# Altium footprint library PcbLib1.PcbLib: 27 footprints (part 1 of 2)
Each footprint in its own frame and in the unit in brackets; x right, y up, seen from the top. Pads: shape width x height; smd on the part's side, far side on the other; paste and mask are expansions set on the pad; w line width, h text height; cw(c..) or ccw(c..) is an arc to the next point about the centre after c.
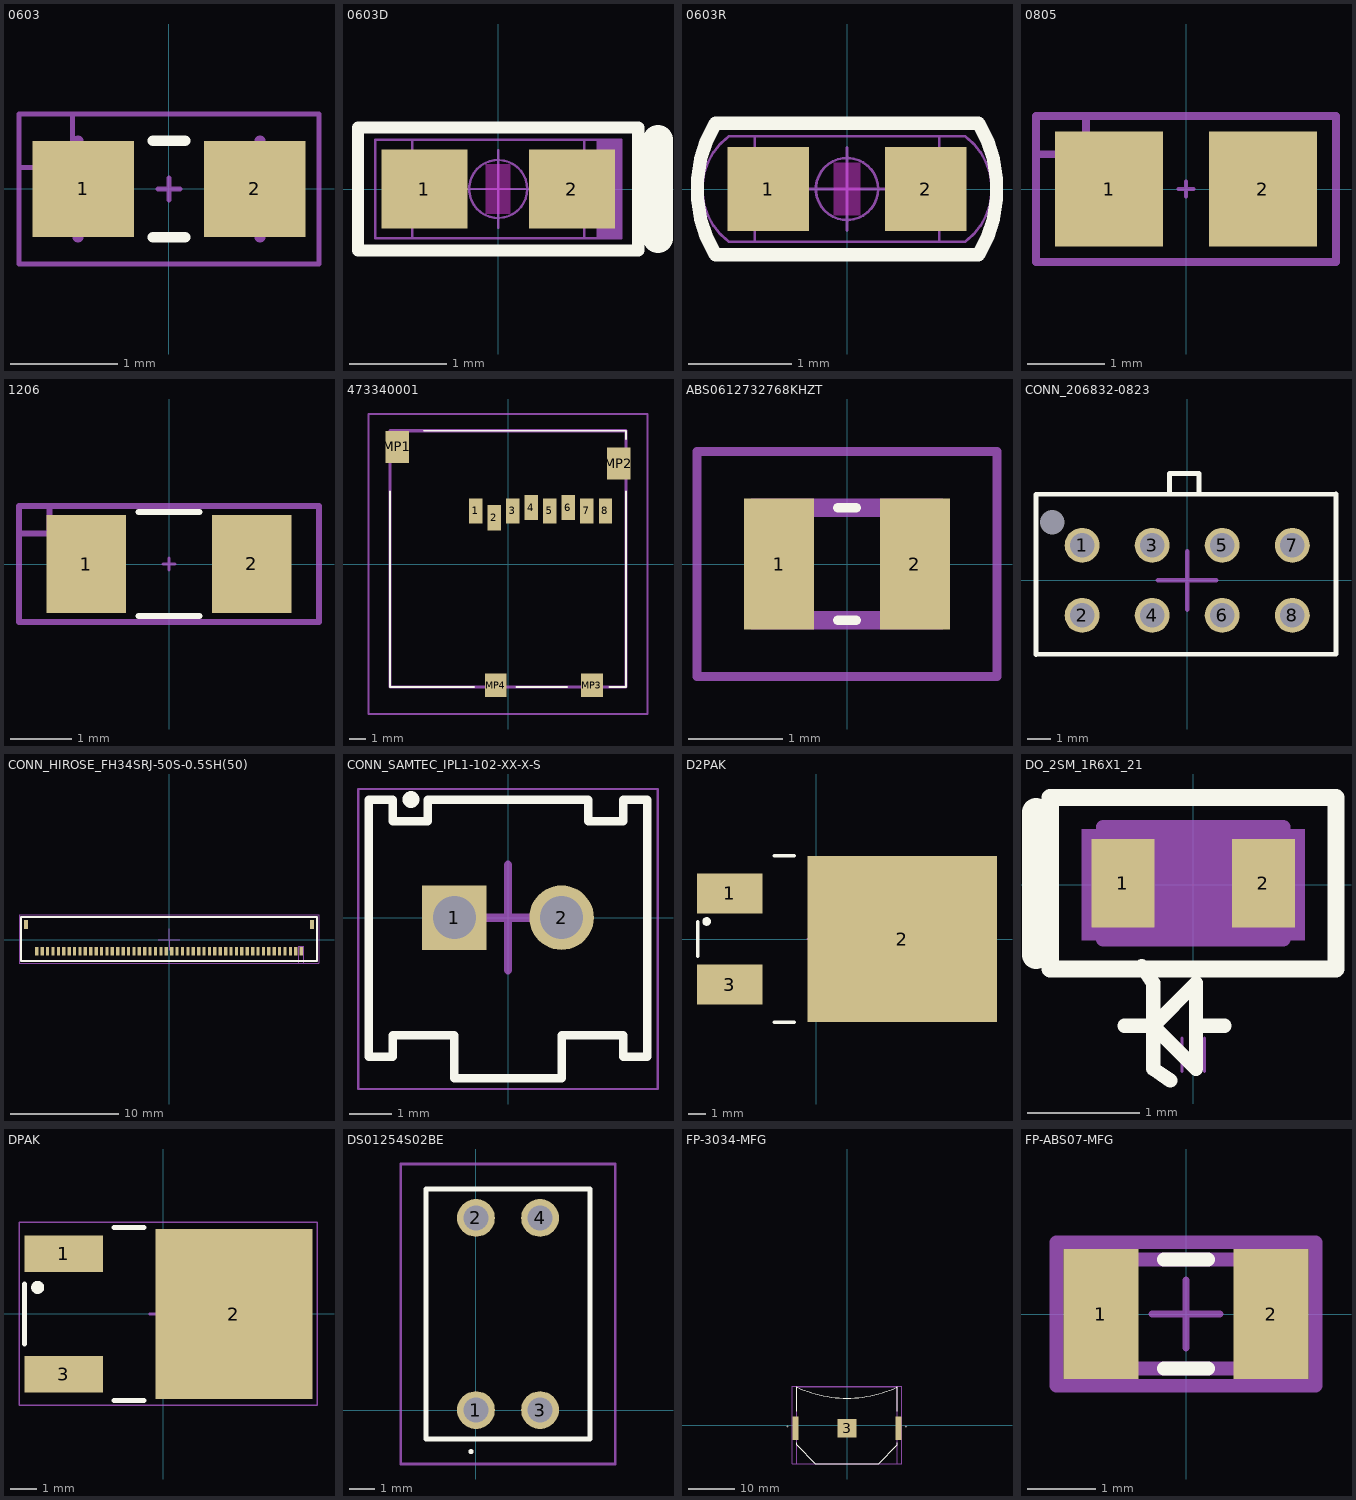
[diagram p0: the footprints below, top view; thin cyan lines are the x and y axes]

## 0603 [mm] "Chip Capacitor, 2-Leads, Body 1.60x0.80mm, IPC Medium Density"
height 0.6
pads (2):
  rect 0.95x0.9 smd: 1(-0.8,0) 2(0.8,0)
Top Overlay:
  lines w0.1: -0.15,-0.45 0.15,-0.45 ; -0.15,0.45 0.15,0.45
Top Courtyard:
  lines w0.05: -1.4,0.2 -0.9,0.2 -0.9,0.675 ; -0.1,0 0.1,0 ; 0,-0.1 0,0.1 ; -1.4,-0.7 1.4,-0.7 1.4,0.7 -1.4,0.7 -1.4,-0.7
Top Designator:
  text ".Designator" at -1.3,-0.3 h0.7
Top 3D Body:
  lines w0.1: -0.85,-0.45 -0.85,0.45 ; 0.85,-0.45 0.85,0.45
3D body: height 0.6, standoff 0, extent -0.45,-0.45 0.45,0.45
3D body: height 0.6, standoff 0, extent 0.45,-0.45 0.85,0.45
3D body: height 0.6, standoff 0, extent -0.85,-0.45 -0.45,0.45

## 0603D [mil] "0603D"
pads (2):
  rect 35x32 smd: 1(-30,0) 2(30,0)
Top Layer keep-out:
  region: -5,-10 5,-10 5,10 -5,10
Top Overlay:
  lines w5: -57,-25 -57,25 57,25 57,-25 -57,-25
  lines w12: 65,-20 65,20
Top Assembly:
  dashed: 40,20 40,-20 50,-20 50,20
  lines w1: -15,-20 -50,-20 -50,20 -30,20 -15,20 ; 15,-20 50,-20 50,20 15,20
Top Component Center:
  circle w1: c0,0 r11.81
  lines w1: -15.75,0 15.75,0 ; 0,-15.75 0,15.75
Mechanical 49:
  text "1" at -30,-6.4 h16
  text "2" at 30,-6.4 h16
Mechanical 56:
  lines w1: -35,-20 -35,20 35,20 35,-20 -35,-20
3D body: height 20, standoff 0, extent -50,-20 50,20

## 0603R [mil] "0603R"
pads (2):
  rect 31x32 smd: 1(-30,0) 2(30,0)
Top Layer keep-out:
  region: -5,10 -5,-10 5,-10 5,10
Top Overlay:
  lines w5: -50,-25 cw(c-8.86,0) -50,25 50,25 cw(c8.86,0) 50,-25 -50,-25
Top Assembly:
  lines w1: -45,-20 cw(c-30,0) -45,20 45,20 cw(c30,0) 45,-20 -45,-20
Top Component Center:
  circle w1: c0,0 r11.81
  lines w1: -15.75,0 15.75,0 ; 0,-15.75 0,15.75
Mechanical 49:
  text "2" at 30,6.4 h16
  text "1" at -30,6.4 h16
Mechanical 56:
  lines w1: -35,-20 35,-20 35,20 -35,20 -35,-20
3D body: height 25, standoff 0, extent -50,-20 50,20

## 0805 [mm] "Generic 0805 Footprint"
height 2
pads (2):
  rect 1.4x1.5 smd: 1(-1,0) 2(1,0)
Top Courtyard:
  lines w0.05: -0.1,0 0.1,0 ; 0,-0.1 0,0.1
  lines w0.1: -1.95,0.45 -1.3,0.45 -1.3,0.95 ; -1.95,-0.95 -1.95,0.95 1.95,0.95 1.95,-0.95 -1.95,-0.95
Top Designator:
  text ".Designator" at -1.8,-0.37 h0.9
3D body "User Library-RESC2012X05N.STEP": height 0.45, standoff 0, extent -1.009,-0.625 0.991,0.625

## 1206 [mm] "Generic 1206"
height 3
pads (2):
  rect 1.3x1.6 smd: 1(-1.35,0) 2(1.35,0)
Top Overlay:
  lines w0.1: -0.5,-0.85 0.5,-0.85 ; -0.5,0.85 0.5,0.85
Top Courtyard:
  lines w0.05: -0.1,0 0.1,0 ; 0,-0.1 0,0.1
  lines w0.1: -2.45,0.5 -1.95,0.5 -1.95,0.95 ; -2.45,-0.95 -2.45,0.95 2.45,0.95 2.45,-0.95 -2.45,-0.95
Top Designator:
  text ".Designator" at -2.3,-0.5 h1
3D body "User Library-CAPC3216X___.STEP": height 0.57, standoff 0, extent -1.6,-0.81 1.6,0.81

## 473340001 [mm]
pads (12):
  rect 0.8x1.5 smd: 1(-1.915,3.15) 2(-0.815,2.75) 3(0.285,3.15) 4(1.385,3.35) 5(2.485,3.15) 6(3.585,3.35) 7(4.685,3.15) 8(5.785,3.15)
  rect 1.4x1.9 smd: MP1(-6.575,6.95) MP2(6.575,5.95)
  rect 1.3x1.4 smd: MP3(4.975,-7.2) MP4(-0.725,-7.2)
Top Overlay:
  lines w0.1: -7,4.3 -7,-7.3 -2,-7.3 ; -5,7.9 7,7.9 7,7.4 ; 0.5,-7.3 3.5,-7.3 ; 6,-7.3 7,-7.3 7,4.3
Top 3D Body:
  lines w0.2: -7,-7.3 -7,7.9 7,7.9 7,-7.3 -7,-7.3
Mechanical 15:
  lines w0.1: -8.275,-8.9 -8.275,8.9 8.275,8.9 8.275,-8.9 -8.275,-8.9
3D body "47334-0001.stp": height 1.88, standoff 0, extent -7.05,-7.52 7.05,7.68

## ABS0612732768KHZT [mm]
pads (2):
  rect 0.75x1.4 smd: 1(-0.725,0) 2(0.725,0)
Top Overlay:
  lines w0.1: -0.1,-0.6 0.1,-0.6 ; -0.1,0.6 0.1,0.6
Top 3D Body:
  lines w0.2: -1,-0.6 -1,0.6 1,0.6 1,-0.6 -1,-0.6
Mechanical 15:
  lines w0.1: -1.6,-1.2 -1.6,1.2 1.6,1.2 1.6,-1.2 -1.6,-1.2
3D body "User Library-TF20D.STEP": height 0.6, standoff 0, extent -1,-0.6 1,0.6

## CONN_206832-0823 [mm]
height 9.4
pads (9):
  round 0 hole 1.05 unplated: 0(-5.78,2.48)
  round 1.5 hole 1.05: 1(-4.5,1.5) 2(-4.5,-1.5) 3(-1.5,1.5) 4(-1.5,-1.5) 5(1.5,1.5) 6(1.5,-1.5) 7(4.5,1.5) 8(4.5,-1.5)
Top Overlay:
  lines w0.2: -0.762,3.683 -0.762,4.572 0.465,4.572 ; 0.508,3.683 0.508,4.572 ; -6.477,-3.176 -6.477,3.684 6.373,3.695 6.373,-3.164 -6.477,-3.176
Top Component Center:
  lines w0.2: -1.25,0 1.25,0 ; 0,-1.25 0,1.25
Top Courtyard:
  lines w0.2: -1.25,0 1.25,0 ; 0,-1.25 0,1.25
3D body "2068320823.stp": height 9.95, standoff -3.14, extent -6.425,-3.43 6.425,4.83

## CONN_HIROSE_FH34SRJ-50S-0.5SH(50) [mm]
height 27.5
pads (52):
  rect 0.4x0.8 smd: 0(-13.25,1.4) 0(13.25,1.4)
  rect 0.3x0.8 smd mask+0: 1(12.25,-1.1) 2(11.75,-1.1) 3(11.25,-1.1) 4(10.75,-1.1) 5(10.25,-1.1) 6(9.75,-1.1) 7(9.25,-1.1) 8(8.75,-1.1) 9(8.25,-1.1) 10(7.75,-1.1) 11(7.25,-1.1) 12(6.75,-1.1) 13(6.25,-1.1) 14(5.75,-1.1) 15(5.25,-1.1) 16(4.75,-1.1) 17(4.25,-1.1) 18(3.75,-1.1) 19(3.25,-1.1) 20(2.75,-1.1) 21(2.25,-1.1) 22(1.75,-1.1) 23(1.25,-1.1) 24(0.75,-1.1) 25(0.25,-1.1) 26(-0.25,-1.1) 27(-0.75,-1.1) 28(-1.25,-1.1) 29(-1.75,-1.1) 30(-2.25,-1.1) 31(-2.75,-1.1) 32(-3.25,-1.1) 33(-3.75,-1.1) 34(-4.25,-1.1) 35(-4.75,-1.1) 36(-5.25,-1.1) 37(-5.75,-1.1) 38(-6.25,-1.1) 39(-6.75,-1.1) 40(-7.25,-1.1) 41(-7.75,-1.1) 42(-8.25,-1.1) 43(-8.75,-1.1) 44(-9.25,-1.1) 45(-9.75,-1.1) 46(-10.25,-1.1) 47(-10.75,-1.1) 48(-11.25,-1.1) 49(-11.75,-1.1) 50(-12.25,-1.1)
Top Overlay:
  lines w0.2: -13.7,-2 13.7,-2 13.7,2.1 -13.7,2.1 -13.7,-2
Top Component Center:
  lines w0.1: -1,0 1,0 ; 0,-1 0,1
Top Courtyard:
  lines w0.05: 12,-2.2 12,-0.6 12.5,-0.6 12.5,-2.2 ; -13.9,-2.2 -13.9,2.3 13.9,2.3 13.9,-2.2 -13.9,-2.2
  lines w0.1: -1,0 1,0 ; 0,-1 0,1
Top Designator:
  text ".Designator" at -2.252,-0.226 h1
3D body "FH34SRJ-50S-0.5SH.stp": height 1.01, standoff 0.01, extent -13.5,-1.9 13.5,1.9

## CONN_SAMTEC_IPL1-102-XX-X-S [mm]
height 8.13
pads (2):
  rect 1.53x1.53 hole 1.02: 1(-1.27,0)
  round 1.53 hole 1.02: 2(1.27,0)
Top Overlay:
  circle w0.2: c-2.3,2.8 r0.1
  lines w0.2: -3.3,-3.3 -2.729,-3.3 -2.729,-2.79 -1.27,-2.79 -1.27,-3.81 1.27,-3.81 1.27,-2.79 2.729,-2.79 2.729,-3.3 3.3,-3.3 3.3,2.8 2.729,2.8 2.729,2.29 1.905,2.29 1.905,2.8 -1.905,2.8 -1.905,2.29 -2.729,2.29 -2.729,2.8 -3.3,2.8 -3.3,-3.3
Top Component Center:
  lines w0.2: -1.25,0 1.25,0 ; 0,-1.25 0,1.25
Top Courtyard:
  lines w0.05: -3.55,-4.06 3.55,-4.06 3.55,3.05 -3.55,3.05 -3.55,-4.06
  lines w0.2: -1.25,0 1.25,0 ; 0,-1.25 0,1.25
Top Designator:
  text ".Designator" at -2.265,-0.239 h1
3D body "IPL1-102-01-L-S-K.stp": height 8.14, standoff -3.04, extent -3.282,-3.81 3.322,2.794

## D2PAK [mm] "D2-PAK, 7-Pads, Body 7.93x8.69mm (max), IPC Medium Density"
height 4.83
pads (3):
  rect 3.81x2.32 smd: 1(-5,2.64) 3(-5,-2.64)
  rect 11x9.65 smd: 2(5,0)
Top Overlay:
  circle w0.25: c-6.35,1.016 r0.125
  lines w0.2: -6.858,-1.016 -6.858,1.016 ; -2.413,-4.826 -1.27,-4.826 ; -2.413,4.826 -1.27,4.826
Assembly Notes:
  lines w0.1: -0.5,0 0.5,0 ; 0,-0.5 0,0.5
  text ".Designator" at -4.191,-0.381 h1
3D body "SW3dPS-TO263-3S.STEP": height 4.81, standoff 0.01, extent -6.025,-5 9.645,5

## DO_2SM_1R6X1_21 [mil] "DO_2SM_1R6X1_21"
pads (2):
  rect 22x31 smd: 1(-24.61,0.5) 2(24.61,0.5)
Top Overlay:
  lines w5: -24,-49.41 -14,-49.41 ; -18,-28.5 -14,-34.41 -14,-64.41 -8,-68.5 ; 1,-49.41 11,-49.41 ; -14,-49.41 1,-34.41 1,-39.41 1,-64.41 -14,-49.41
  lines w6: -50,-29.5 -50,30.5 50,30.5 50,-29.5 -50,-29.5
  lines w9.84: -55,-24.5 -55,25.5
Top Assembly:
  lines w5: -31.5,-19.19 31.5,-19.19 31.5,20.19 -31.5,20.19 -31.5,-19.19
  lines w9.84: -25,-14.5 -25,15.5
Top Component Center:
  circle w1: c0,0.5 r11.81
  circle w1: c0,0.5 r11.81
  lines w1: -15.75,0.5 15.75,0.5 -15.75,0.5 ; 0,-15.25 0,16.25 0,-15.25
Top 3D Body:
  region: -39,19.5 -39,-19.5 39,-19.5 39,19.5
Mechanical 49:
  text "2" at 25.08,-10.9 h16
  text "1" at -25.08,-10.9 h16
Mechanical 52:
  lines w1: -3.94,-65.41 -3.94,-53.59 ; 3.94,-65.41 3.94,-53.59
3D body: height 25, standoff 0, extent -39,-19.5 39,19.5

## DPAK [mm]
pads (3):
  rect 3x1.4 smd: 1(-3.793,2.287) 3(-3.793,-2.313)
  rect 6x6.5 smd: 2(2.707,-0.013)
Top Overlay:
  circle w0.25: c-4.786,1.003 r0.125
  lines w0.2: -5.294,-1.156 -5.294,1.13 ; -1.865,-3.315 -0.722,-3.315 ; -1.865,3.289 -0.722,3.289
Assembly Notes:
  lines w0.1: 2.207,-0.013 3.207,-0.013 ; 2.707,-0.513 2.707,0.487
Top Component Center:
  lines w0.1: -0.513,-0.013 0.487,-0.013 ; -0.013,-0.513 -0.013,0.487
Top Courtyard:
  lines w0.05: -5.5,-3.5 -5.5,3.5 5.9,3.5 5.9,-3.5 -5.5,-3.5
  lines w0.1: -0.513,-0.013 0.487,-0.013 ; -0.013,-0.513 -0.013,0.487
Top Designator:
  text ".Designator" at -2.265,-0.239 h1
3D body "TO-252AA.stp": height 2.41, standoff 0.01, extent -5.033,-3.315 5.367,3.362

## DS01254S02BE [mm]
pads (4):
  round 1.5 hole 1: 1(0,0) 2(0,7.62) 3(2.54,0) 4(2.54,7.62)
Top Overlay:
  lines w0.1: -0.2,-1.7 ccw(c-0.2,-1.65) -0.2,-1.6 ccw(c-0.2,-1.65) -0.2,-1.7
  lines w0.2: -1.98,-1.14 -1.98,8.76 4.52,8.76 4.52,-1.14 -1.98,-1.14
Top 3D Body:
  lines w0.1: -1.98,-1.14 -1.98,8.76 4.52,8.76 4.52,-1.14 -1.98,-1.14
Mechanical 15:
  lines w0.1: -2.98,-2.14 -2.98,9.76 5.52,9.76 5.52,-2.14 -2.98,-2.14
3D body "DS01-254-S-02BE.stp": height 7.1, standoff -5, extent -1.98,-1.14 4.52,8.76

## FP-3034-MFG [mm]
height 1.75
pads (3):
  rect 1.27x5.08 smd paste+0 mask+0: 1(-10.985,-0.67) 2(10.985,-0.67)
  rect 3.96x3.96 smd paste-1000 mask+0: 3(0,-0.67)
Top Overlay:
  lines w0.2: -10.73,-3.725 -10.73,-4.225 -6.77,-8.185 ; -10.73,3 -10.73,8.185 ccw(c0,30.765) 10.73,8.185 10.73,3 ; -6.645,-8.185 6.645,-8.185 ; 6.77,-8.185 10.73,-4.225 10.73,-3.725
  text "+" at -12.925,-0.875 h1
  text "+" at 12.35,-0.875 h1
Top Assembly:
  lines w0.2: -11.72,-8.285 -11.72,8.285 11.72,8.285 11.72,-8.285 -11.72,-8.285
  text ".Designator" at 0,0.188 h1
Top Component Center:
  lines w0.1: -0.5,0 0.5,0 ; 0,-0.5 0,0.5
Top Courtyard:
  lines w0.2: -11.72,-8.285 -11.72,8.285 11.72,8.285 11.72,-8.285 -11.72,-8.285
Top 3D Body:
  lines w0.2: -10.73,-8.185 -10.73,8.185 10.73,8.185 10.73,-8.185 -10.73,-8.185
3D body "Batt_Keystone_Electronics_3034_eec.STEP": height 0.25, standoff 0, extent -11.72,-8.285 11.72,8.285

## FP-ABS07-MFG [mm]
height 1.75
pads (2):
  rect 1.1x1.9 smd paste+0 mask+0: 1(-1.25,0) 2(1.25,0)
Top Overlay:
  lines w0.2: -0.325,-0.8 0.325,-0.8 ; -0.325,0.8 0.325,0.8
Top Assembly:
  lines w0.2: -1.9,-1.05 -1.9,1.05 1.9,1.05 1.9,-1.05 -1.9,-1.05
  text ".Designator" at 0,0.188 h1
Top Component Center:
  lines w0.1: -0.5,0 0.5,0 ; 0,-0.5 0,0.5
Top Courtyard:
  lines w0.2: -1.9,-1.05 -1.9,1.05 1.9,1.05 1.9,-1.05 -1.9,-1.05
Top 3D Body:
  lines w0.2: -1.65,-0.8 -1.65,0.8 1.65,0.8 1.65,-0.8 -1.65,-0.8
3D body "Crys_Abracon_ABS07-166-32_768KHZ-T_eec.STEP": height 0.25, standoff 0, extent -1.9,-1.05 1.9,1.05